# Altium footprint library XGL3520-681.PcbLib: 1 footprints
Each footprint in its own frame and in the unit in brackets; x right, y up, seen from the top. Pads: shape width x height; smd on the part's side, far side on the other; paste and mask are expansions set on the pad; w line width, h text height; cw(c..) or ccw(c..) is an arc to the next point about the centre after c.
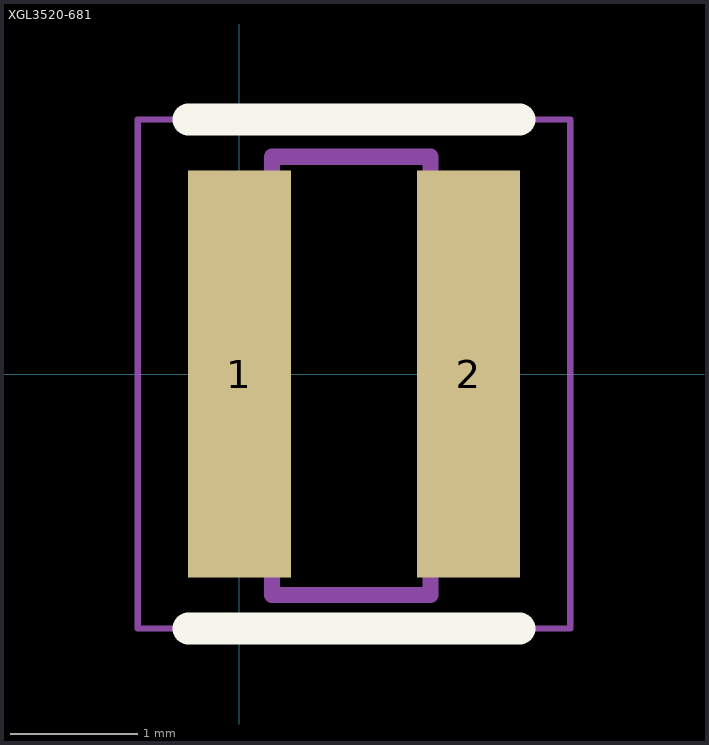
[diagram p0: the footprint, top view; thin cyan lines are the x and y axes]

## XGL3520-681 [mm]
pads (2):
  rect 0.81x3.2 smd: 1(0,0) 2(1.8,0)
Top Overlay:
  lines w0.254: -0.4,-2 2.2,-2 ; -0.4,2 2.2,2
Assembly Top:
  lines w0.127: 0.257,-1.736 1.5,-1.736 1.5,1.707 0.257,1.707 0.257,-1.736
Top Courtyard:
  lines w0.05: -0.8,-2 2.6,-2 2.6,2 -0.8,2 -0.8,-2
3D body: height 0.25, standoff 0, extent 0.1,-1.736 1.7,1.707